# EAGLE library part DATEL_DMS-20PC_DISPLAY (library 1A-meinLib)
Panelmeter Typ DMS-20PC, 31/2 digit LED, DATEL
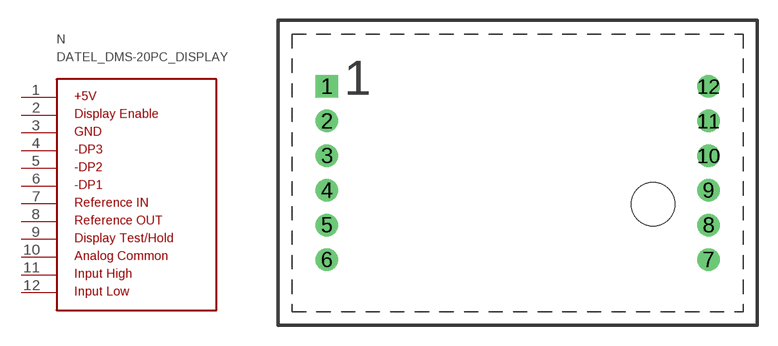
[diagram p150: symbol with the pads of DATEL_DMS-20PC_DISPLAY; footprint DATEL_DMS-20PC_DISPLAY]

Designator prefix N

## DATEL_DMS-20PC_DISPLAY  [DATEL_DMS-20PC_DISPLAY]
1  P$1  pwr
2  P$2  pas
3  P$3  pwr
4  P$4  in
5  P$5  in
6  P$6  in
7  P$7  in
8  P$8
9  P$9  pas
10  P$10  out
11  P$11  in
12  P$12  in

## Footprint DATEL_DMS-20PC_DISPLAY (pad centres in mm)
drill 1.1 square: 1 -13.97,6.35
drill 1.1 round: 2 -13.97,3.81; 3 -13.97,1.27; 4 -13.97,-1.27; 5 -13.97,-3.81; 6 -13.97,-6.35; 7 13.97,-6.35; 8 13.97,-3.81; 9 13.97,-1.27; 10 13.97,1.27; 11 13.97,3.81; 12 13.97,6.35
hole 3.2 at 9.906,-2.286